# Altium footprint library JAE_DX07S016JA1R1500.PcbLib: 1 footprints
Each footprint in its own frame and in the unit in brackets; x right, y up, seen from the top. Pads: shape width x height; smd on the part's side, far side on the other; paste and mask are expansions set on the pad; w line width, h text height; cw(c..) or ccw(c..) is an arc to the next point about the centre after c.
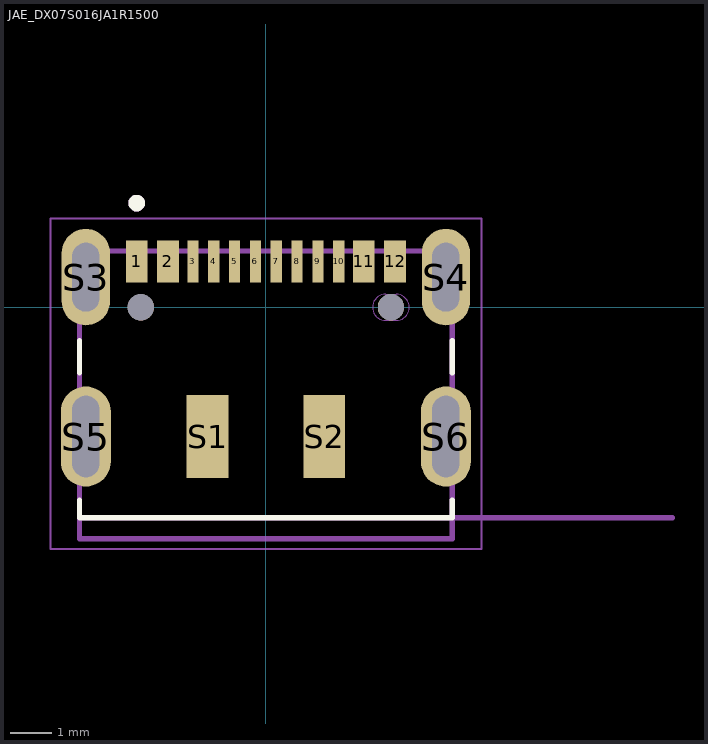
[diagram p0: the footprint, top view; thin cyan lines are the x and y axes]

## JAE_DX07S016JA1R1500 [mm]
pads (21):
  rect 0.52x1 smd: 1(-3.1,1.1) 2(-2.35,1.1) 11(2.35,1.1) 12(3.1,1.1)
  rect 0.27x1 smd: 3(-1.75,1.1) 4(-1.25,1.1) 5(-0.75,1.1) 6(-0.25,1.1) 7(0.25,1.1) 8(0.75,1.1) 9(1.25,1.1) 10(1.75,1.1)
  rect 1x2 smd: S1(-1.4,-3.1) S2(1.4,-3.1)
  oval 1.158x2.316 hole 0.65 slot 1.65 at 90 deg: S3(-4.32,0.725) S4(4.32,0.725)
  oval 1.2x2.4 hole 0.65 slot 1.95 at 90 deg: S5(-4.32,-3.1) S6(4.32,-3.1)
  round 0.63 hole 0.63 unplated: ""(-3,0) ""(3,0)
  round 0.6 hole 0.6 unplated: ""(3,0)
Top Overlay:
  circle w0.2: c-3.1,2.5 r0.1
  lines w0.127: -4.47,-4.63 -4.47,-5.05 4.47,-5.05 4.47,-4.63 ; -4.47,-1.57 -4.47,-0.805 ; 4.47,-1.57 4.47,-0.805
Mechanical 1:
  lines w0: 2.56,0 ccw(c2.875,0) 2.875,-0.315 3.125,-0.315 ccw(c3.125,0) 3.44,0 ccw(c3.125,0) 3.125,0.315 2.875,0.315 ccw(c2.875,0) 2.56,0
Mechanical 13:
  circle w0.2: c-3.1,2.5 r0.1
  lines w0.127: 9.75,-5.05 4.47,-5.05 ; -4.47,-5.05 -4.47,-5.55 4.47,-5.55 4.47,-5.05 ; -4.47,-5.05 -4.47,1.35 4.47,1.35 4.47,-5.05 ; -4.47,-5.05 4.47,-5.05
  text "PCB EDGE" at 5.5,-4.75 h0.61
Mechanical 15:
  lines w0.05: -5.17,-5.8 -5.17,2.135 5.17,2.135 5.17,-5.8 -5.17,-5.8